# EAGLE library part STM32F407VET6 (library stm32f4_ve)
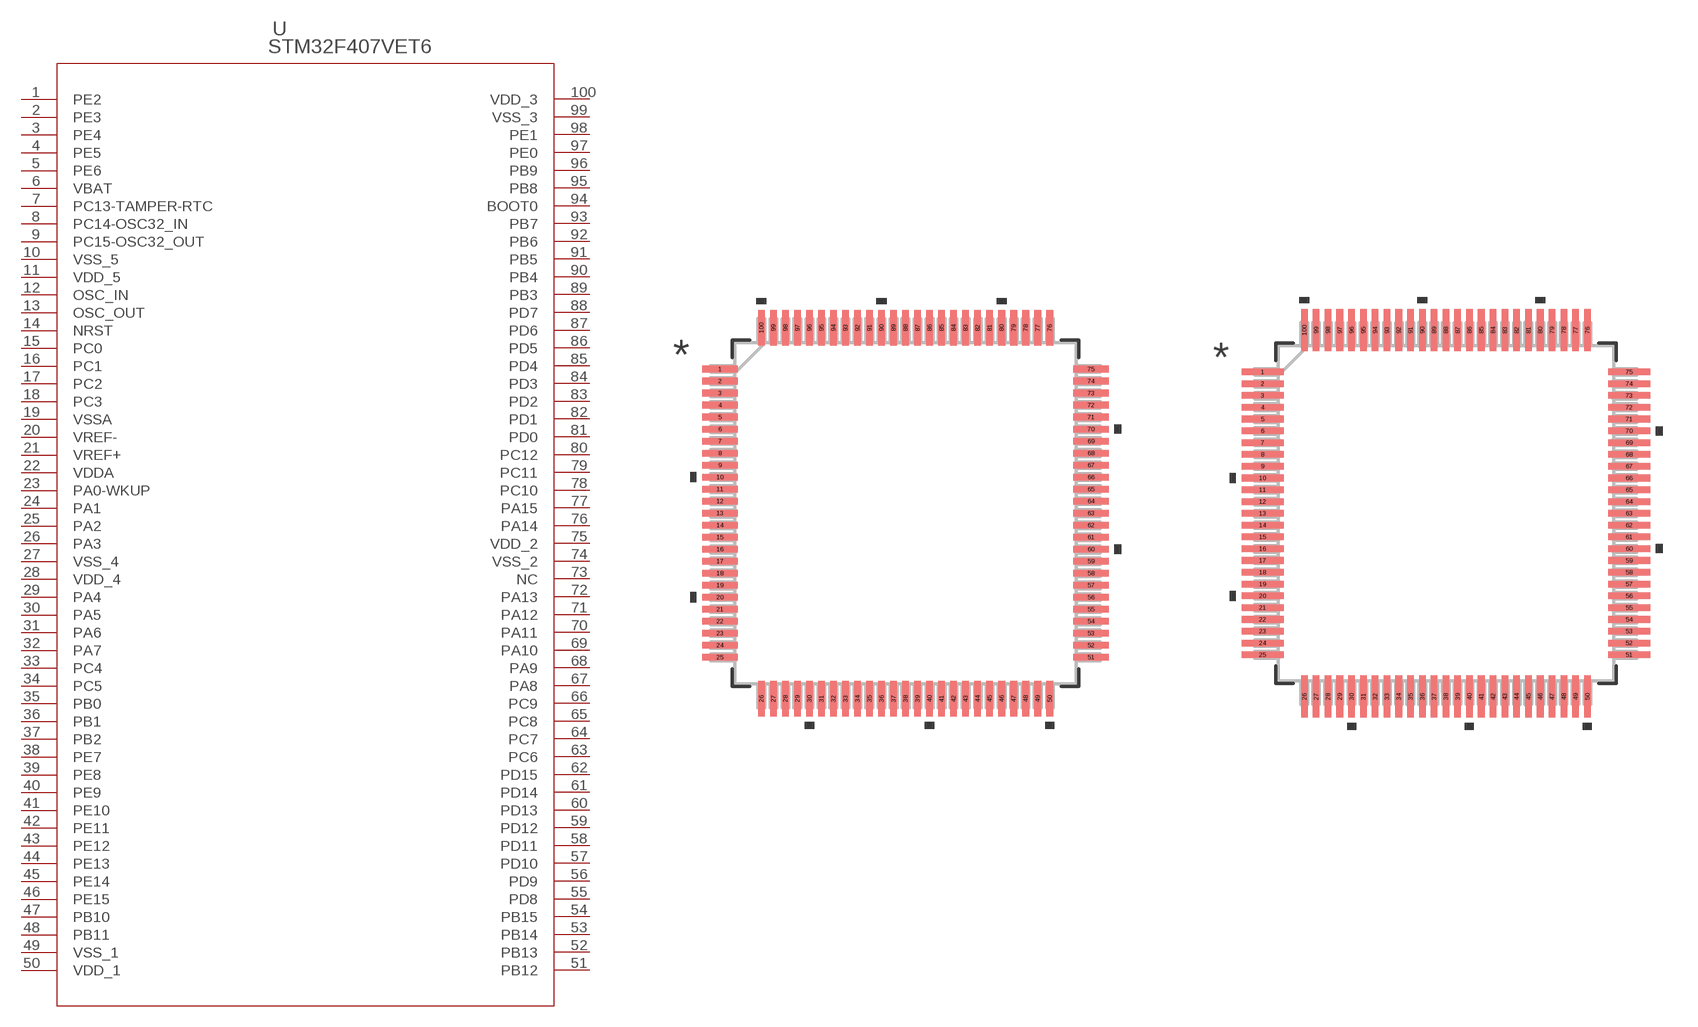
[diagram p0: symbol with the pads of LQFP-100; footprints LQFP-100, LQFP-100-M]

Designator prefix U

## STM32F407VET6 (MANUFACTURER_PART_NUMBER: STM32F103VET6; VENDOR: ST Microelectronics)  [LQFP-100]
1  PE2  pas
2  PE3  pas
3  PE4  pas
4  PE5  pas
5  PE6  pas
6  VBAT  pwr
7  PC13-TAMPER-RTC  pas
8  PC14-OSC32_IN  pas
9  PC15-OSC32_OUT  pas
10  VSS_5  pwr
11  VDD_5  pwr
12  OSC_IN  in
13  OSC_OUT  out
14  NRST  pas
15  PC0  pas
16  PC1  pas
17  PC2  pas
18  PC3  pas
19  VSSA  pwr
20  VREF-  pwr
21  VREF+  pwr
22  VDDA  pwr
23  PA0-WKUP  pas
24  PA1  pas
25  PA2  pas
26  PA3  pas
27  VSS_4  pwr
28  VDD_4  pwr
29  PA4  pas
30  PA5  pas
31  PA6  pas
32  PA7  pas
33  PC4  pas
34  PC5  pas
35  PB0  pas
36  PB1  pas
37  PB2  pas
38  PE7  pas
39  PE8  pas
40  PE9  pas
41  PE10  pas
42  PE11  pas
43  PE12  pas
44  PE13  pas
45  PE14  pas
46  PE15  pas
47  PB10  pas
48  PB11  pas
49  VSS_1  pwr
50  VDD_1  pwr
51  PB12  pas
52  PB13  pas
53  PB14  pas
54  PB15  pas
55  PD8  pas
56  PD9  pas
57  PD10  pas
58  PD11  pas
59  PD12  pas
60  PD13  pas
61  PD14  pas
62  PD15  pas
63  PC6  pas
64  PC7  pas
65  PC8  pas
66  PC9  pas
67  PA8  pas
68  PA9  pas
69  PA10  pas
70  PA11  pas
71  PA12  pas
72  PA13  pas
73  NC  nc
74  VSS_2  pwr
75  VDD_2  pwr
76  PA14  pas
77  PA15  pas
78  PC10  pas
79  PC11  pas
80  PC12  pas
81  PD0  pas
82  PD1  pas
83  PD2  pas
84  PD3  pas
85  PD4  pas
86  PD5  pas
87  PD6  pas
88  PD7  pas
89  PB3  pas
90  PB4  pas
91  PB5  pas
92  PB6  pas
93  PB7  pas
94  BOOT0  in
95  PB8  pas
96  PB9  pas
97  PE0  pas
98  PE1  pas
99  VSS_3  pwr
100  VDD_3  pwr

## STM32F407VET6LQFP-100-M (MANUFACTURER_PART_NUMBER: STM32F103VET6; VENDOR: ST Microelectronics)  [LQFP-100-M]
Pads as for LQFP-100

## STM32F407VET6LQFP-100-L (MANUFACTURER_PART_NUMBER: STM32F103VET6; VENDOR: ST Microelectronics)  [LQFP-100-L]
Pads as for LQFP-100

## Footprint LQFP-100 (pad centres in mm)
smd 1.473 x 0.279: 1 -7.722,6; 2 -7.722,5.5; 3 -7.722,5; 4 -7.722,4.5; 5 -7.722,4; 6 -7.722,3.5; 7 -7.722,3; 8 -7.722,2.5; 9 -7.722,2; 10 -7.722,1.5; 11 -7.722,1; 12 -7.722,0.5; 13 -7.722,0; 14 -7.722,-0.5; 15 -7.722,-1; 16 -7.722,-1.5; 17 -7.722,-2; 18 -7.722,-2.5; 19 -7.722,-3; 20 -7.722,-3.5; 21 -7.722,-4; 22 -7.722,-4.5; 23 -7.722,-5; 24 -7.722,-5.5; 25 -7.722,-6; 51 7.722,-6; 52 7.722,-5.5; 53 7.722,-5; 54 7.722,-4.5; 55 7.722,-4; 56 7.722,-3.5; 57 7.722,-3; 58 7.722,-2.5; 59 7.722,-2; 60 7.722,-1.5; 61 7.722,-1; 62 7.722,-0.5; 63 7.722,0; 64 7.722,0.5; 65 7.722,1; 66 7.722,1.5; 67 7.722,2; 68 7.722,2.5; 69 7.722,3; 70 7.722,3.5; 71 7.722,4; 72 7.722,4.5; 73 7.722,5; 74 7.722,5.5; 75 7.722,6
smd 0.279 x 1.473: 26 -6,-7.722; 27 -5.5,-7.722; 28 -5,-7.722; 29 -4.5,-7.722; 30 -4,-7.722; 31 -3.5,-7.722; 32 -3,-7.722; 33 -2.5,-7.722; 34 -2,-7.722; 35 -1.5,-7.722; 36 -1,-7.722; 37 -0.5,-7.722; 38 0,-7.722; 39 0.5,-7.722; 40 1,-7.722; 41 1.5,-7.722; 42 2,-7.722; 43 2.5,-7.722; 44 3,-7.722; 45 3.5,-7.722; 46 4,-7.722; 47 4.5,-7.722; 48 5,-7.722; 49 5.5,-7.722; 50 6,-7.722; 76 6,7.722; 77 5.5,7.722; 78 5,7.722; 79 4.5,7.722; 80 4,7.722; 81 3.5,7.722; 82 3,7.722; 83 2.5,7.722; 84 2,7.722; 85 1.5,7.722; 86 1,7.722; 87 0.5,7.722; 88 0,7.722; 89 -0.5,7.722; 90 -1,7.722; 91 -1.5,7.722; 92 -2,7.722; 93 -2.5,7.722; 94 -3,7.722; 95 -3.5,7.722; 96 -4,7.722; 97 -4.5,7.722; 98 -5,7.722; 99 -5.5,7.722; 100 -6,7.722

## Footprint LQFP-100-M (pad centres in mm)
smd 1.778 x 0.279: 1 -7.772,6; 2 -7.772,5.5; 3 -7.772,5; 4 -7.772,4.5; 5 -7.772,4; 6 -7.772,3.5; 7 -7.772,3; 8 -7.772,2.5; 9 -7.772,2; 10 -7.772,1.5; 11 -7.772,1; 12 -7.772,0.5; 13 -7.772,0; 14 -7.772,-0.5; 15 -7.772,-1; 16 -7.772,-1.5; 17 -7.772,-2; 18 -7.772,-2.5; 19 -7.772,-3; 20 -7.772,-3.5; 21 -7.772,-4; 22 -7.772,-4.5; 23 -7.772,-5; 24 -7.772,-5.5; 25 -7.772,-6; 51 7.772,-6; 52 7.772,-5.5; 53 7.772,-5; 54 7.772,-4.5; 55 7.772,-4; 56 7.772,-3.5; 57 7.772,-3; 58 7.772,-2.5; 59 7.772,-2; 60 7.772,-1.5; 61 7.772,-1; 62 7.772,-0.5; 63 7.772,0; 64 7.772,0.5; 65 7.772,1; 66 7.772,1.5; 67 7.772,2; 68 7.772,2.5; 69 7.772,3; 70 7.772,3.5; 71 7.772,4; 72 7.772,4.5; 73 7.772,5; 74 7.772,5.5; 75 7.772,6
smd 0.279 x 1.778: 26 -6,-7.772; 27 -5.5,-7.772; 28 -5,-7.772; 29 -4.5,-7.772; 30 -4,-7.772; 31 -3.5,-7.772; 32 -3,-7.772; 33 -2.5,-7.772; 34 -2,-7.772; 35 -1.5,-7.772; 36 -1,-7.772; 37 -0.5,-7.772; 38 0,-7.772; 39 0.5,-7.772; 40 1,-7.772; 41 1.5,-7.772; 42 2,-7.772; 43 2.5,-7.772; 44 3,-7.772; 45 3.5,-7.772; 46 4,-7.772; 47 4.5,-7.772; 48 5,-7.772; 49 5.5,-7.772; 50 6,-7.772; 76 6,7.772; 77 5.5,7.772; 78 5,7.772; 79 4.5,7.772; 80 4,7.772; 81 3.5,7.772; 82 3,7.772; 83 2.5,7.772; 84 2,7.772; 85 1.5,7.772; 86 1,7.772; 87 0.5,7.772; 88 0,7.772; 89 -0.5,7.772; 90 -1,7.772; 91 -1.5,7.772; 92 -2,7.772; 93 -2.5,7.772; 94 -3,7.772; 95 -3.5,7.772; 96 -4,7.772; 97 -4.5,7.772; 98 -5,7.772; 99 -5.5,7.772; 100 -6,7.772

## Footprint LQFP-100-L (pad centres in mm)
smd 1.168 x 0.279: 1 -7.671,6; 2 -7.671,5.5; 3 -7.671,5; 4 -7.671,4.5; 5 -7.671,4; 6 -7.671,3.5; 7 -7.671,3; 8 -7.671,2.5; 9 -7.671,2; 10 -7.671,1.5; 11 -7.671,1; 12 -7.671,0.5; 13 -7.671,0; 14 -7.671,-0.5; 15 -7.671,-1; 16 -7.671,-1.5; 17 -7.671,-2; 18 -7.671,-2.5; 19 -7.671,-3; 20 -7.671,-3.5; 21 -7.671,-4; 22 -7.671,-4.5; 23 -7.671,-5; 24 -7.671,-5.5; 25 -7.671,-6; 51 7.671,-6; 52 7.671,-5.5; 53 7.671,-5; 54 7.671,-4.5; 55 7.671,-4; 56 7.671,-3.5; 57 7.671,-3; 58 7.671,-2.5; 59 7.671,-2; 60 7.671,-1.5; 61 7.671,-1; 62 7.671,-0.5; 63 7.671,0; 64 7.671,0.5; 65 7.671,1; 66 7.671,1.5; 67 7.671,2; 68 7.671,2.5; 69 7.671,3; 70 7.671,3.5; 71 7.671,4; 72 7.671,4.5; 73 7.671,5; 74 7.671,5.5; 75 7.671,6
smd 0.279 x 1.168: 26 -6,-7.671; 27 -5.5,-7.671; 28 -5,-7.671; 29 -4.5,-7.671; 30 -4,-7.671; 31 -3.5,-7.671; 32 -3,-7.671; 33 -2.5,-7.671; 34 -2,-7.671; 35 -1.5,-7.671; 36 -1,-7.671; 37 -0.5,-7.671; 38 0,-7.671; 39 0.5,-7.671; 40 1,-7.671; 41 1.5,-7.671; 42 2,-7.671; 43 2.5,-7.671; 44 3,-7.671; 45 3.5,-7.671; 46 4,-7.671; 47 4.5,-7.671; 48 5,-7.671; 49 5.5,-7.671; 50 6,-7.671; 76 6,7.671; 77 5.5,7.671; 78 5,7.671; 79 4.5,7.671; 80 4,7.671; 81 3.5,7.671; 82 3,7.671; 83 2.5,7.671; 84 2,7.671; 85 1.5,7.671; 86 1,7.671; 87 0.5,7.671; 88 0,7.671; 89 -0.5,7.671; 90 -1,7.671; 91 -1.5,7.671; 92 -2,7.671; 93 -2.5,7.671; 94 -3,7.671; 95 -3.5,7.671; 96 -4,7.671; 97 -4.5,7.671; 98 -5,7.671; 99 -5.5,7.671; 100 -6,7.671